# Altium footprint library HMC1001_module.PcbLib: 21 footprints (part 2 of 2)
Each footprint in its own frame and in the unit in brackets; x right, y up, seen from the top. Pads: shape width x height; smd on the part's side, far side on the other; paste and mask are expansions set on the pad; w line width, h text height; cw(c..) or ccw(c..) is an arc to the next point about the centre after c.
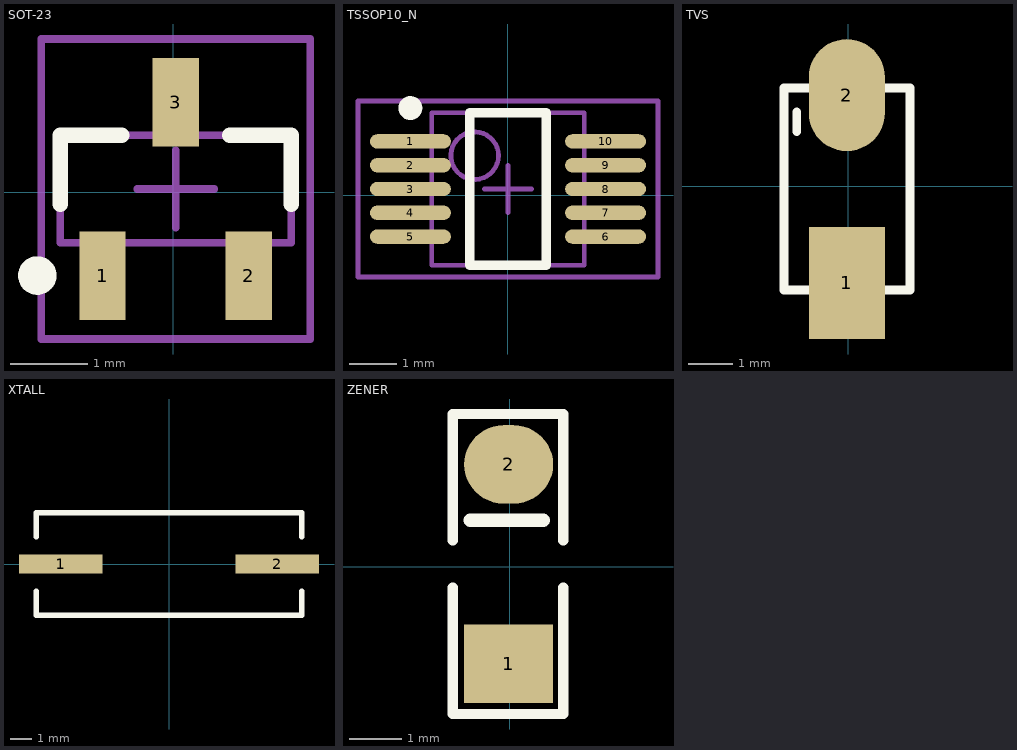
[diagram p1: the footprints below, top view; thin cyan lines are the x and y axes]

## SOT-23 [mm]
pads (3):
  rect 0.6x1.15 smd: 1(-0.919,-1.081) 2(0.981,-1.081) 3(0.031,1.169)
Top Overlay:
  circle w0.25: c-1.769,-1.081 r0.125
  lines w0.2: -1.469,-0.156 -1.469,0.744 -0.669,0.744 ; 0.731,0.744 1.531,0.744 1.531,-0.156
Mechanical 13:
  lines w0.1: -1.469,-0.656 -1.469,0.744 1.531,0.744 1.531,-0.656 -1.469,-0.656
Mechanical 15:
  lines w0.1: -0.469,0.044 0.531,0.044 ; 0.031,-0.456 0.031,0.544 ; -1.719,-1.906 -1.719,1.994 1.781,1.994 1.781,-1.906 -1.719,-1.906
3D body: height 1, standoff 0, extent -1.419,-1.181 1.481,1.119

## TSSOP10_N [mm]
pads (10):
  oval 1.7x0.3 smd: 1(-2.05,1.127) 2(-2.05,0.627) 3(-2.05,0.127) 4(-2.05,-0.373) 5(-2.05,-0.873) 6(2.05,-0.873) 7(2.05,-0.373) 8(2.05,0.127) 9(2.05,0.627) 10(2.05,1.127)
Top Overlay:
  circle w0.25: c-2.05,1.827 r0.125
  lines w0.2: -0.8,-1.473 -0.8,1.727 0.8,1.727 0.8,-1.473 -0.8,-1.473
Mechanical 13:
  circle w0.1: c-0.7,0.827 r0.5
  lines w0.1: -1.6,-1.473 -1.6,1.727 1.6,1.727 1.6,-1.473 -1.6,-1.473
Mechanical 15:
  lines w0.1: -0.5,0.127 0.5,0.127 ; 0,-0.373 0,0.627 ; -3.15,-1.723 -3.15,1.977 3.15,1.977 3.15,-1.723 -3.15,-1.723
3D body: height 1.1, standoff 0, extent -1.6,-1.473 1.6,1.727

## TVS [mm]
pads (2):
  rect 1.7x2.5 smd: 1(-0.025,-2.159)
  oval 1.7x2.5 smd: 2(-0.025,2.032)
Top Overlay:
  lines w0.2: -1.143,1.219 -1.143,1.651 ; -1.422,-2.316 1.378,-2.316 1.378,2.184 -1.422,2.184 -1.422,-2.316
3D body: height 2.2, standoff 0, extent -1.499,-2.54 1.421,2.515
3D body: height 2.23, standoff 0, extent -1.502,1.803 1.422,2.007
3D body: height 1.5, standoff 0, extent -1.016,2.515 0.965,2.743
3D body: height 1.5, standoff 0, extent -1.016,-2.756 0.965,-2.527

## XTALL [mm]
height 11.4
pads (2):
  rect 3.91x0.889 smd: 1(-5.08,0) 2(5.08,0)
Top Overlay:
  lines w0.254: -6.223,-1.27 -6.223,-2.413 6.223,-2.413 6.223,-1.27 ; -6.223,1.27 -6.223,2.413 6.223,2.413 6.223,1.27

## ZENER [mm]
pads (2):
  rect 1.7x1.5 smd mask+0.102: 1(-0.025,-1.854)
  oval 1.7x1.5 smd: 2(-0.025,1.956)
Top Overlay:
  lines w0.2: -1.092,-0.406 -1.092,-2.819 1.016,-2.819 1.016,-0.406 ; -1.092,0.508 -1.092,2.921 1.016,2.921 1.016,0.508
  lines w0.254: -0.762,0.889 0.635,0.889
3D body: height 1.6, standoff 0, extent -0.822,1.399 0.771,1.499
3D body: height 1.6, standoff 0, extent -0.822,-1.778 0.771,-1.378
3D body: height 1.6, standoff 0, extent -0.822,1.499 0.771,1.899
3D body: height 1.6, standoff 0, extent -0.822,-0.295 0.771,0.305
3D body: height 1.6, standoff 0, extent -0.822,0.297 0.771,1.397
3D body: height 1.6, standoff 0, extent -0.822,-1.379 0.771,-0.279